# EAGLE library part STM32F217IEH6 (library circuit_tree)
IC
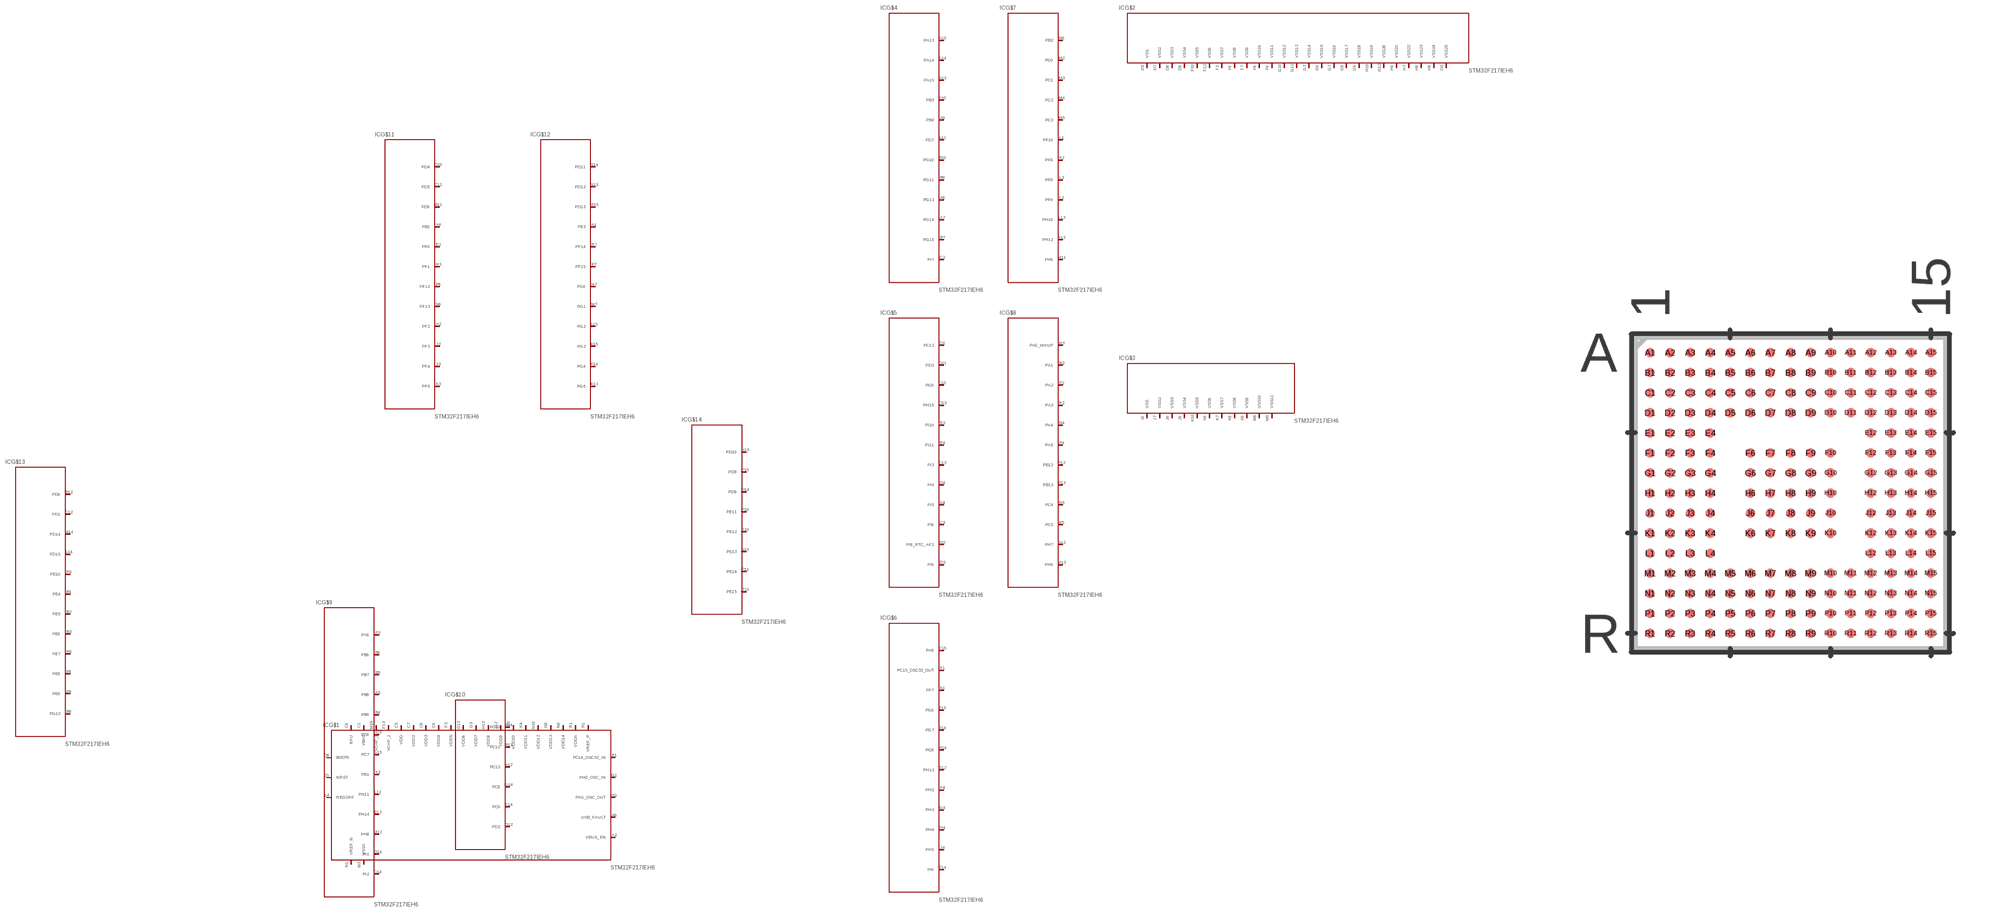
[diagram p6: symbol with the pads of UFBGA176_25; footprint UFBGA176_25]

Designator prefix IC; gates G$1=STM32F217IEH6 G$2=STM32F217IEH62 G$3=STM32F217IEH63 G$4=STM32F217IEH64 G$5=STM32F217IEH65 G$6=STM32F217IEH66 G$7=STM32F217IEH67 G$8=STM32F217IEH68 G$9=STM32F217IEH69 G$10=STM32F217IEH610 G$11=STM32F217IEH611 G$12=STM32F217IEH612 G$13=STM32F217IEH613 G$14=STM32F217IEH614

## STM32F217IEH6  [UFBGA176_25]
A1  G$12:PE3  pas
A2  G$1:VBUS_EN  pas
A3  G$9:PE1  pas
A4  G$11:PE0  pas
A5  G$9:PB8  pas
A6  G$1:USB_FAULT  pas
A7  G$4:PG14  pas
A8  G$4:PG13  pas
A9  G$4:PB4  pas
A10  G$4:PB3  pas
A11  G$4:PD7  pas
A12  G$10:PC12  pas
A13  G$4:PA15  pas
A14  G$4:PA14  pas
A15  G$4:PA13  pas
B1  G$13:PE4  pas
B2  G$13:PE5  pas
B3  G$13:PE6  pas
B4  G$9:PB9  pas
B5  G$9:PB7  pas
B6  G$9:PB6  pas
B7  G$4:PG15  pas
B8  G$13:PG12  pas
B9  G$4:PG11  pas
B10  G$4:PG10  pas
B11  G$11:PD6  pas
B12  G$13:PD0  pas
B13  G$10:PC11  pas
B14  G$10:PC10  pas
C1  G$1:VBAT  pas
C2  G$4:PI7  pas
C3  G$5:PI6  pas
C4  G$5:PI5  pas
C5  G$1:VDD  pas
C6  G$1:RFU  pas
C7  G$1:VDD2  pas
C8  G$1:VDD3  pas
C9  G$1:VDD4  pas
C10  G$5:PG9  pas
C11  G$11:PD5  pas
C12  G$13:PD1  pas
C13  G$5:PI3  pas
C14  G$9:PI2  pas
D1  G$5:PC13  pas
D2  G$5:PI8_RTC_AF2  pas
D3  G$5:PI9  pas
D4  G$5:PI4  pas
D5  G$2:VSS  pas
D6  G$1:BOOT0  pas
D7  G$2:VSS2  pas
D8  G$2:VSS3  pas
D9  G$2:VSS4  pas
D10  G$11:PD4  pas
D11  G$5:PD3  pas
D12  G$10:PD2  pas
D13  G$5:PH15  pas
D14  G$9:PI1  pas
E1  G$1:PC14_OSC32_IN  pas
E2  G$11:PF0  pas
E3  G$5:PI10  pas
E4  G$5:PI11  pas
E12  G$6:PH13  pas
E13  G$9:PH14  pas
E14  G$6:PI0  pas
F1  G$6:PC15_OSC32_OUT  pas
F2  G$2:VSS7  pas
F3  G$1:VDD5  pas
F4  G$6:PH2  pas
F6  G$2:VSS8  pas
F7  G$2:VSS9  pas
F8  G$2:VSS10  pas
F9  G$2:VSS11  pas
F10  G$2:VSS5  pas
F12  G$2:VSS6  pas
F13  G$1:VCAP_2  pas
F14  G$10:PC9  pas
F15  G$6:PA8  pas
G1  G$1:PH0_OSC_IN  pas
G2  G$2:VSS14  pas
G3  G$1:VDD7  pas
G4  G$6:PH3  pas
G6  G$2:VSS15  pas
G7  G$2:VSS16  pas
G8  G$2:VSS17  pas
G9  G$2:VSS18  pas
G10  G$2:VSS12  pas
G12  G$2:VSS13  pas
G13  G$1:VDD6  pas
G14  G$10:PC8  pas
G15  G$9:PC7  pas
H1  G$1:PH1_OSC_OUT  pas
H2  G$11:PF2  pas
H3  G$11:PF1  pas
H4  G$6:PH4  pas
H6  G$2:VSS21  pas
H7  G$2:VSS22  pas
H8  G$2:VSS23  pas
H9  G$2:VSS24  pas
H10  G$2:VSS19  pas
H12  G$2:VSS20  pas
H13  G$1:VDD8  pas
H14  G$6:PG8  pas
H15  G$9:PC6  pas
J1  G$1:NRST  pas
J2  G$11:PF3  pas
J3  G$11:PF4  pas
J4  G$6:PH5  pas
J6  G$3:VSS  pas
J7  G$3:VSS2  pas
J8  G$3:VSS3  pas
J9  G$3:VSS4  pas
J10  G$2:VSS25  pas
J12  G$1:VDD9  pas
J13  G$1:VDD10  pas
J14  G$6:PG7  pas
J15  G$6:PG6  pas
K1  G$6:PF7  pas
K2  G$7:PF6  pas
K3  G$11:PF5  pas
K4  G$1:VDD11  pas
K6  G$3:VSS6  pas
K7  G$3:VSS7  pas
K8  G$3:VSS8  pas
K9  G$3:VSS9  pas
K10  G$3:VSS5  pas
K12  G$7:PH12  pas
K13  G$12:PG5  pas
K14  G$12:PG4  pas
K15  G$12:PG3  pas
L1  G$7:PF10  pas
L2  G$7:PF9  pas
L3  G$7:PF8  pas
L4  G$1:REGOFF  pas
L12  G$9:PH11  pas
L13  G$7:PH10  pas
L14  G$13:PD15  pas
L15  G$12:PG2  pas
M1  G$1:VSSA  pas
M2  G$7:PC0  pas
M3  G$7:PC1  pas
M4  G$7:PC2  pas
M5  G$7:PC3  pas
M6  G$7:PB2  pas
M7  G$12:PG1  pas
M8  G$3:VSS10  pas
M9  G$3:VSS11  pas
M10  G$1:VCAP_1  pas
M11  G$7:PH6  pas
M12  G$9:PH8  pas
M13  G$8:PH9  pas
M14  G$13:PD14  pas
M15  G$12:PD13  pas
N1  G$1:VREF_N  pas
N2  G$8:PA1  pas
N3  G$8:PA0_WKUP  pas
N4  G$8:PA4  pas
N5  G$8:PC4  pas
N6  G$11:PF13  pas
N7  G$12:PG0  pas
N8  G$1:VDD13  pas
N9  G$1:VDD14  pas
N10  G$1:VDD12  pas
N11  G$14:PE13  pas
N12  G$8:PH7  pas
N13  G$12:PD12  pas
N14  G$12:PD11  pas
N15  G$14:PD10  pas
P1  G$1:VREF_P  pas
P2  G$8:PA2  pas
P3  G$9:PA6  pas
P4  G$8:PA5  pas
P5  G$8:PC5  pas
P6  G$11:PF12  pas
P7  G$12:PF15  pas
P8  G$13:PE8  pas
P9  G$13:PE9  pas
P10  G$14:PE11  pas
P11  G$14:PE14  pas
P12  G$8:PB12  pas
P13  G$8:PB13  pas
P14  G$14:PD9  pas
P15  G$14:PD8  pas
R1  G$1:VDDA  pas
R2  G$8:PA3  pas
R7  G$12:PF14  pas
R8  G$13:PE7  pas
R9  G$13:PE10  pas
R10  G$14:PE12  pas
R11  G$14:PE15  pas

## Footprint UFBGA176_25 (pad centres in mm)
smd 0.3 x 0.3: A1 -4.55,4.55; A2 -3.9,4.55; A3 -3.25,4.55; A4 -2.6,4.55; A5 -1.95,4.55; A6 -1.3,4.55; A7 -0.65,4.55; A8 0,4.55; A9 0.65,4.55; A10 1.3,4.55; A11 1.95,4.55; A12 2.6,4.55; A13 3.25,4.55; A14 3.9,4.55; A15 4.55,4.55; B1 -4.55,3.9; B2 -3.9,3.9; B3 -3.25,3.9; B4 -2.6,3.9; B5 -1.95,3.9; B6 -1.3,3.9; B7 -0.65,3.9; B8 0,3.9; B9 0.65,3.9; B10 1.3,3.9; B11 1.95,3.9; B12 2.6,3.9; B13 3.25,3.9; B14 3.9,3.9; B15 4.55,3.9; C1 -4.55,3.25; C2 -3.9,3.25; C3 -3.25,3.25; C4 -2.6,3.25; C5 -1.95,3.25; C6 -1.3,3.25; C7 -0.65,3.25; C8 0,3.25; C9 0.65,3.25; C10 1.3,3.25; C11 1.95,3.25; C12 2.6,3.25; C13 3.25,3.25; C14 3.9,3.25; C15 4.55,3.25; D1 -4.55,2.6; D2 -3.9,2.6; D3 -3.25,2.6; D4 -2.6,2.6; D5 -1.95,2.6; D6 -1.3,2.6; D7 -0.65,2.6; D8 0,2.6; D9 0.65,2.6; D10 1.3,2.6; D11 1.95,2.6; D12 2.6,2.6; D13 3.25,2.6; D14 3.9,2.6; D15 4.55,2.6; E1 -4.55,1.95; E2 -3.9,1.95; E3 -3.25,1.95; E4 -2.6,1.95; E12 2.6,1.95; E13 3.25,1.95; E14 3.9,1.95; E15 4.55,1.95; F1 -4.55,1.3; F2 -3.9,1.3; F3 -3.25,1.3; F4 -2.6,1.3; F6 -1.3,1.3; F7 -0.65,1.3; F8 0,1.3; F9 0.65,1.3; F10 1.3,1.3; F12 2.6,1.3; F13 3.25,1.3; F14 3.9,1.3; F15 4.55,1.3; G1 -4.55,0.65; G2 -3.9,0.65; G3 -3.25,0.65; G4 -2.6,0.65; G6 -1.3,0.65; G7 -0.65,0.65; G8 0,0.65; G9 0.65,0.65; G10 1.3,0.65; G12 2.6,0.65; G13 3.25,0.65; G14 3.9,0.65; G15 4.55,0.65; H1 -4.55,0; H2 -3.9,0; H3 -3.25,0; H4 -2.6,0; H6 -1.3,0; H7 -0.65,0; H8 0,0; H9 0.65,0; H10 1.3,0; H12 2.6,0; H13 3.25,0; H14 3.9,0; H15 4.55,0; J1 -4.55,-0.65; J2 -3.9,-0.65; J3 -3.25,-0.65; J4 -2.6,-0.65; J6 -1.3,-0.65; J7 -0.65,-0.65; J8 0,-0.65; J9 0.65,-0.65; J10 1.3,-0.65; J12 2.6,-0.65; J13 3.25,-0.65; J14 3.9,-0.65; J15 4.55,-0.65; K1 -4.55,-1.3; K2 -3.9,-1.3; K3 -3.25,-1.3; K4 -2.6,-1.3; K6 -1.3,-1.3; K7 -0.65,-1.3; K8 0,-1.3; K9 0.65,-1.3; K10 1.3,-1.3; K12 2.6,-1.3; K13 3.25,-1.3; K14 3.9,-1.3; K15 4.55,-1.3; L1 -4.55,-1.95; L2 -3.9,-1.95; L3 -3.25,-1.95; L4 -2.6,-1.95; L12 2.6,-1.95; L13 3.25,-1.95; L14 3.9,-1.95; L15 4.55,-1.95; M1 -4.55,-2.6; M2 -3.9,-2.6; M3 -3.25,-2.6; M4 -2.6,-2.6; M5 -1.95,-2.6; M6 -1.3,-2.6; M7 -0.65,-2.6; M8 0,-2.6; M9 0.65,-2.6; M10 1.3,-2.6; M11 1.95,-2.6; M12 2.6,-2.6; M13 3.25,-2.6; M14 3.9,-2.6; M15 4.55,-2.6; N1 -4.55,-3.25; N2 -3.9,-3.25; N3 -3.25,-3.25; N4 -2.6,-3.25; N5 -1.95,-3.25; N6 -1.3,-3.25; N7 -0.65,-3.25; N8 0,-3.25; N9 0.65,-3.25; N10 1.3,-3.25; N11 1.95,-3.25; N12 2.6,-3.25; N13 3.25,-3.25; N14 3.9,-3.25; N15 4.55,-3.25; P1 -4.55,-3.9; P2 -3.9,-3.9; P3 -3.25,-3.9; P4 -2.6,-3.9; P5 -1.95,-3.9; P6 -1.3,-3.9; P7 -0.65,-3.9; P8 0,-3.9; P9 0.65,-3.9; P10 1.3,-3.9; P11 1.95,-3.9; P12 2.6,-3.9; P13 3.25,-3.9; P14 3.9,-3.9; P15 4.55,-3.9; R1 -4.55,-4.55; R2 -3.9,-4.55; R3 -3.25,-4.55; R4 -2.6,-4.55; R5 -1.95,-4.55; R6 -1.3,-4.55; R7 -0.65,-4.55; R8 0,-4.55; R9 0.65,-4.55; R10 1.3,-4.55; R11 1.95,-4.55; R12 2.6,-4.55; R13 3.25,-4.55; R14 3.9,-4.55; R15 4.55,-4.55